# EAGLE library part TE_EDGECON_26 (library Custom_headers)
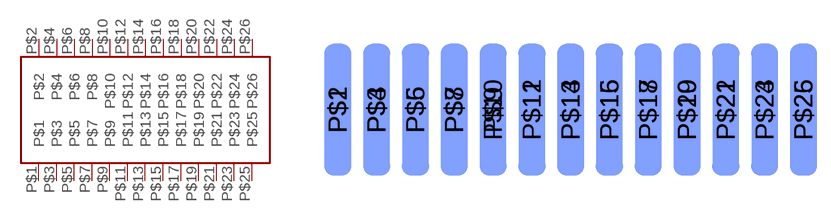
[diagram p7: symbol with the pads of TE_EDGE_26; footprint TE_EDGE_26]

Designator prefix -

## TE_EDGECON_26  [TE_EDGE_26]
P$1  P$1
P$2  P$2
P$3  P$3
P$4  P$4
P$5  P$5
P$6  P$6
P$7  P$7
P$8  P$8
P$9  P$9
P$10  P$10
P$11  P$11
P$12  P$12
P$13  P$13
P$14  P$14
P$15  P$15
P$16  P$16
P$17  P$17
P$18  P$18
P$19  P$19
P$20  P$20
P$21  P$21
P$22  P$22
P$23  P$23
P$24  P$24
P$25  P$25
P$26  P$26

## Footprint TE_EDGE_26 (pad centres in mm)
smd 1.778 x 8.636: P$1 -15.24,0; P$3 -12.7,0; P$5 -10.16,0; P$7 -7.62,0; P$9 -5.08,0; P$11 -2.54,0; P$13 0,0; P$15 2.54,0; P$17 5.08,0; P$19 7.62,0; P$21 10.16,0; P$23 12.7,0; P$25 15.24,0
smd 1.778 x 8.636 bottom: P$2 -15.24,0; P$4 -12.7,0; P$6 -10.16,0; P$8 -7.62,0; P$10 -5.08,0; P$12 -2.54,0; P$14 0,0; P$16 2.54,0; P$18 5.08,0; P$20 7.62,0; P$22 10.16,0; P$24 12.7,0; P$26 15.24,0